# EAGLE library part SWITCH_THRU (library foe-scale)
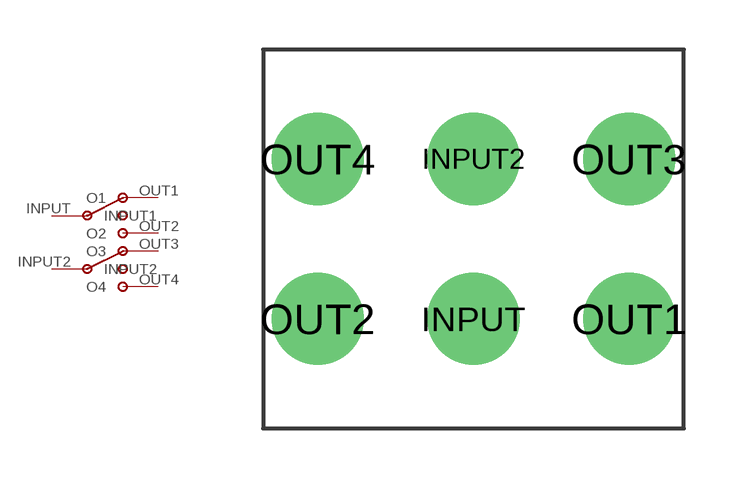
[diagram p9: symbol with the pads of DPDT; footprint DPDT]

Designator prefix -

## SWITCH_THRU  [DPDT]
INPUT  INPUT1
INPUT2  INPUT2
OUT1  O1
OUT2  O2
OUT3  O3
OUT4  O4

## Footprint DPDT (pad centres in mm)
drill 1.854: INPUT 0,0; INPUT2 0,4.826; OUT1 4.7,0; OUT2 -4.7,0; OUT3 4.699,4.826; OUT4 -4.699,4.826